# EAGLE library part 2N7002BKV,115 (library nxp)
60 V, 340 mA dual N-channel Trench MOSFET SOT666 package 1.6ohm Rds(on) max Logic-level compatible Very fast switching Trench MOSFET technology ESD protection up to 2 kV AEC-Q101 qualified
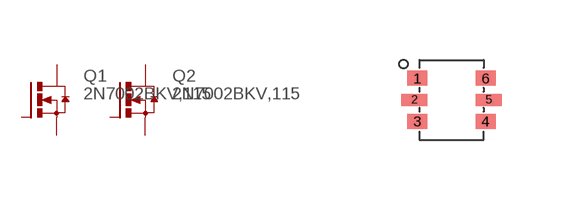
[diagram p0: symbol with the pads of SOT666; footprint SOT666]

Designator prefix Q; gates 1=MOSFET_N 2=MOSFET_N

## 2N7002BKV,115  [SOT666]
1  1:S  pas
2  1:G  pas
3  2:D  pas
4  2:S  pas
5  2:G  pas
6  1:D  pas

## Footprint SOT666 (pad centres in mm)
smd 0.5 x 0.375: 1 -0.85,0.538; 3 -0.85,-0.538; 4 0.85,-0.538; 6 0.85,0.538
smd 0.65 x 0.3: 2 -0.925,0; 5 0.925,0